# EAGLE library part CD40109BPWR (library MILESTONE4LIB_E)
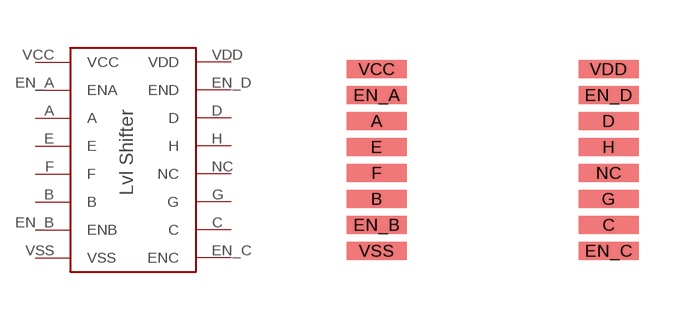
[diagram p5: symbol with the pads of 16-TSSOP; footprint 16-TSSOP]

Designator prefix -

## CD40109BPWR  [16-TSSOP]
A  A
B  B
C  C
D  D
E  E
EN_A  ENA
EN_B  ENB
EN_C  ENC
EN_D  END
F  F
G  G
H  H
NC  NC
VCC  VCC
VDD  VDD
VSS  VSS

## Footprint 16-TSSOP (pad centres in mm)
smd 1.5 x 0.45: A -2.9,0.975; B -2.9,-0.975; C 2.9,-1.625; D 2.9,0.975; E -2.9,0.325; EN_A -2.9,1.625; EN_B -2.9,-1.625; EN_C 2.9,-2.275; EN_D 2.9,1.625; F -2.9,-0.325; G 2.9,-0.975; H 2.9,0.325; NC 2.9,-0.325; VCC -2.9,2.275; VDD 2.9,2.275; VSS -2.9,-2.275